# Altium integrated library NSC MiscPower.IntLib: 675 symbols (part 7 of 17)
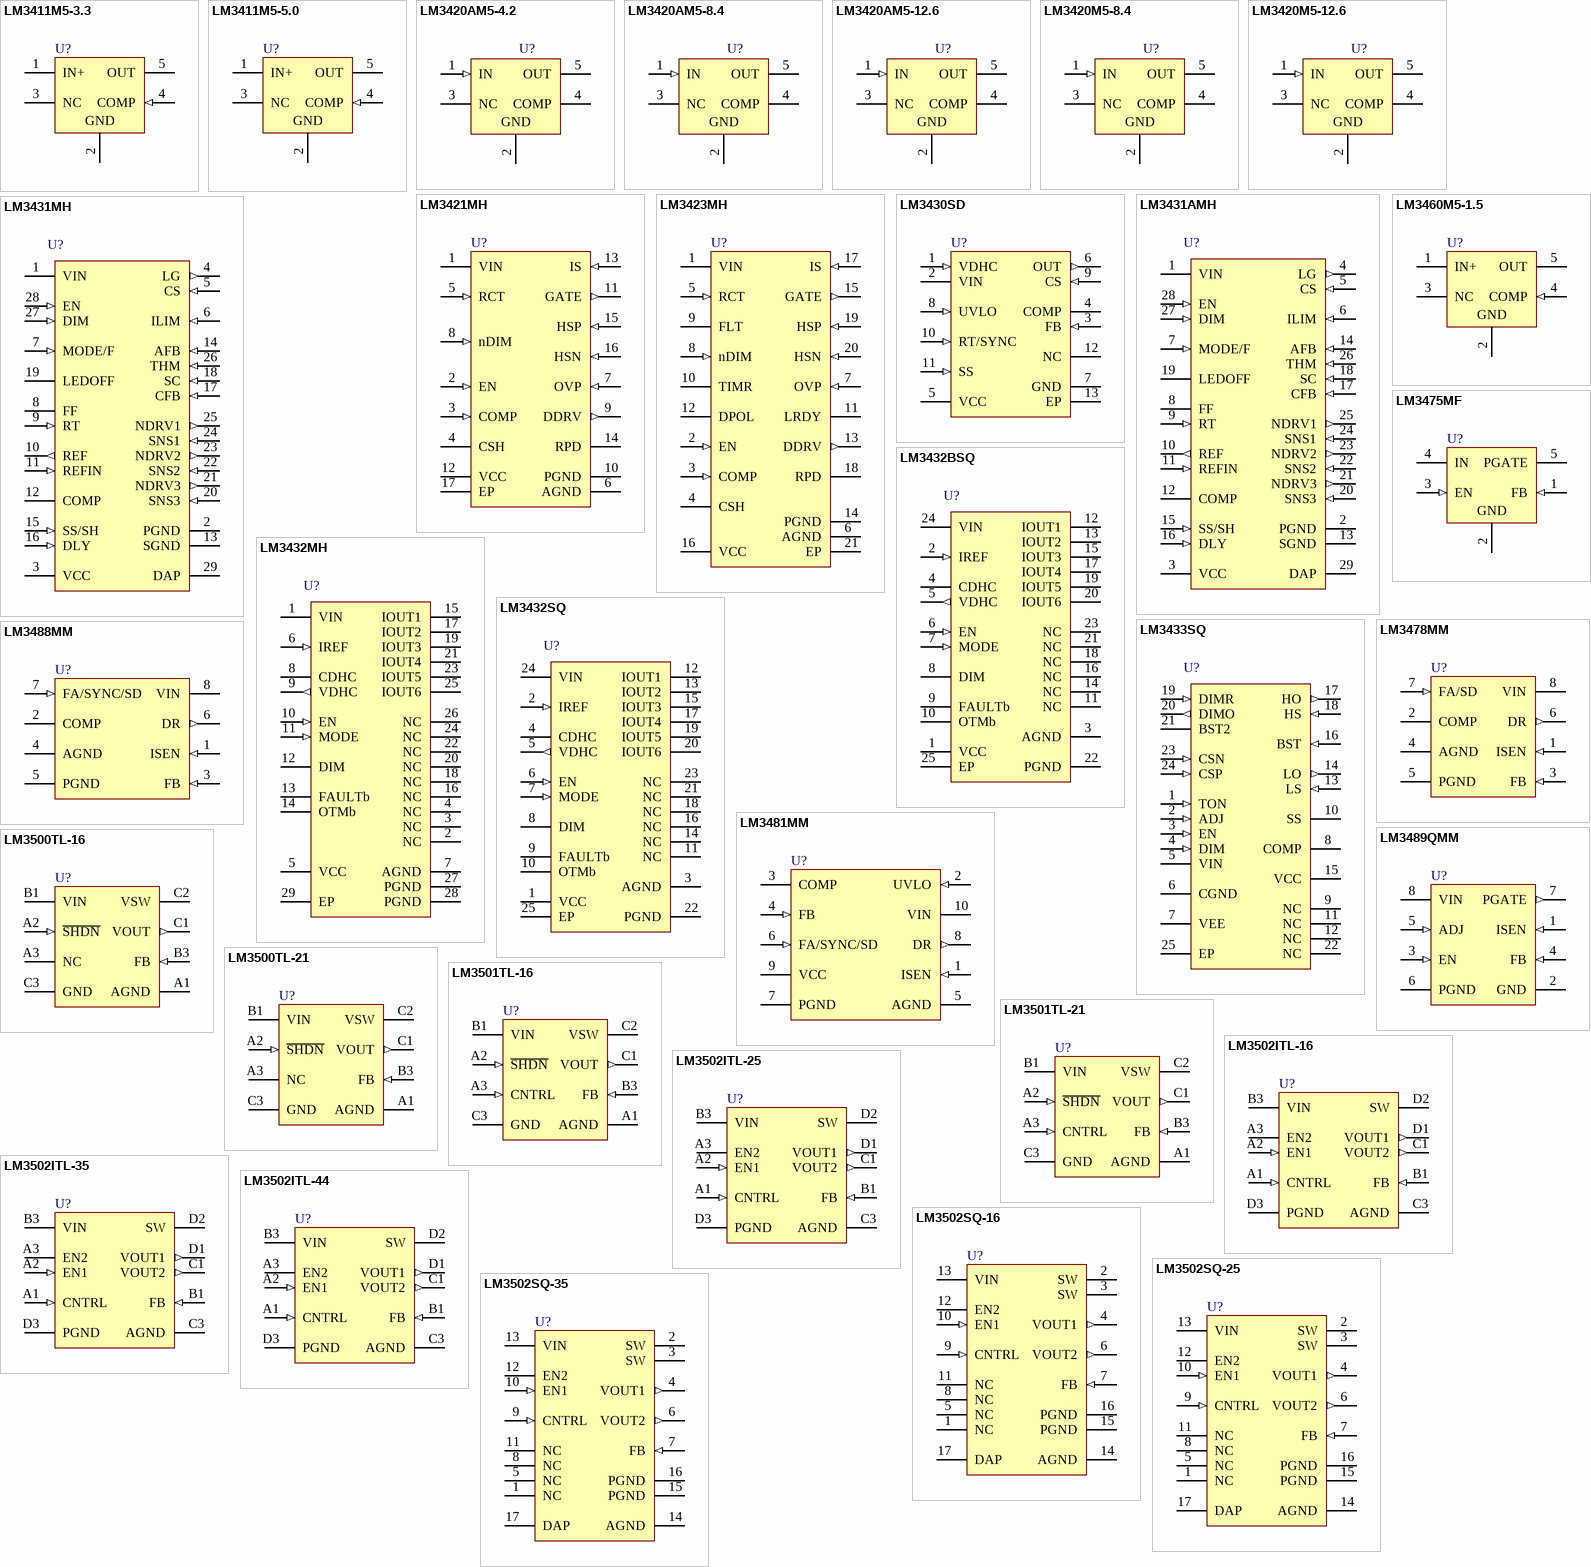
[diagram p28: symbols LM3411M5-3.3 to LM3502SQ-35]

## LM3431AMH
designator U?
3-Channel Constant Current LED Driver with Integrated Boost Controller; PartNumber: LM3431AMH; Manufacturer: National Semiconductor; CompType: MiscPower; PackageTopMarking: NSUZXYTT*LM3431AMH; Published: 4-Dec-2008; DatasheetVersion: Jan-2008; PackageVersion: revD, Oct-2003; PackageReference: MXA28A; Publisher: Altium Limited; PackageDescription: Molded TSSOP, Jedec, 9.7 x 4.4 x 0.9mm Body, 28 Lead, 0.65mm Pitch, Exposed Pad; RoHS: Y; PinCount: 28; DigiKeyPartNumber: LM3431AMH-ND; Code_JEDEC: MO-153-AET; ComponentLink1Description: LM3431 Datasheet; ComponentLink1URL: http://www.national.com/ds/LM/LM3431.pdf; ComponentLink2Description: LM3431 Web Page; ComponentLink2URL: http://www.national.com/pf/LM/LM3431.html; ComponentLink3Description: MXA28A Package Page; ComponentLink3URL: http://www.national.com/packaging/folders/mxa28a.html
footprint MXA28A_N (TSOP, 28-Leads, Body 9.7x4.4mm, Pitch 0.65mm, Exposed Pad, IPC Medium Density)
footprint MXA28A_L (TSOP, 28-Leads, Body 9.7x4.4mm, Pitch 0.65mm, Exposed Pad, IPC High Density)
footprint MXA28A_M (TSOP, 28-Leads, Body 9.7x4.4mm, Pitch 0.65mm, Exposed Pad, IPC Low Density)
pins: 1 VIN (power), 2 PGND (power), 3 VCC (power), 4 LG (out), 5 CS (in), 6 ILIM (in), 7 MODE/F (in), 8 FF, 9 RT (in), 10 REF (out), 11 REFIN (in), 12 COMP, 13 SGND (power), 14 AFB (in), 15 SS/SH (in), 16 DLY (in), 17 CFB (in), 18 SC (in), 19 LEDOFF, 20 SNS3 (in), 21 NDRV3 (out), 22 SNS2 (in), 23 NDRV2 (out), 24 SNS1 (in), 25 NDRV1 (out), 26 THM (in), 27 DIM (in), 28 EN (in), 29 DAP (power)

## LM3431MH
designator U?
3-Channel Constant Current LED Driver with Integrated Boost Controller; PartNumber: LM3431MH; Manufacturer: National Semiconductor; CompType: MiscPower; PackageTopMarking: NSUZXYTT*LM3431MH; Published: 4-Dec-2008; DatasheetVersion: Jan-2008; PackageVersion: revD, Oct-2003; PackageReference: MXA28A; Publisher: Altium Limited; PackageDescription: Molded TSSOP, Jedec, 9.7 x 4.4 x 0.9mm Body, 28 Lead, 0.65mm Pitch, Exposed Pad; RoHS: Y; PinCount: 28; DigiKeyPartNumber: LM3431MH-ND; Code_JEDEC: MO-153-AET; ComponentLink1Description: LM3431 Datasheet; ComponentLink1URL: http://www.national.com/ds/LM/LM3431.pdf; ComponentLink2Description: LM3431 Web Page; ComponentLink2URL: http://www.national.com/pf/LM/LM3431.html; ComponentLink3Description: MXA28A Package Page; ComponentLink3URL: http://www.national.com/packaging/folders/mxa28a.html
footprint MXA28A_N (TSOP, 28-Leads, Body 9.7x4.4mm, Pitch 0.65mm, Exposed Pad, IPC Medium Density)
footprint MXA28A_L (TSOP, 28-Leads, Body 9.7x4.4mm, Pitch 0.65mm, Exposed Pad, IPC High Density)
footprint MXA28A_M (TSOP, 28-Leads, Body 9.7x4.4mm, Pitch 0.65mm, Exposed Pad, IPC Low Density)
pins: 1 VIN (power), 2 PGND (power), 3 VCC (power), 4 LG (out), 5 CS (in), 6 ILIM (in), 7 MODE/F (in), 8 FF, 9 RT (in), 10 REF (out), 11 REFIN (in), 12 COMP, 13 SGND (power), 14 AFB (in), 15 SS/SH (in), 16 DLY (in), 17 CFB (in), 18 SC (in), 19 LEDOFF, 20 SNS3 (in), 21 NDRV3 (out), 22 SNS2 (in), 23 NDRV2 (out), 24 SNS1 (in), 25 NDRV1 (out), 26 THM (in), 27 DIM (in), 28 EN (in), 29 DAP (power)

## LM3432BSQ
designator U?
6-Channel Current Regulator for LED Backlight Application; PartNumber: LM3432BSQ; Manufacturer: National Semiconductor; CompType: MiscPower; PackageTopMarking: NS*UZXYTT*3432BSQ; Published: 4-Dec-2008; DatasheetVersion: May-2008; PackageVersion: revA, Oct-2003; PackageReference: SQA24B; Publisher: Altium Limited; PackageDescription: LLP, Plastic, Quad, 5 x 4 x 0.8mm Body, 24 Lead, 0.5mm Pitch, No Pullback; RoHS: Y; PinCount: 24; Code_JEDEC: MO-220-WGHD-1; ComponentLink1Description: LM3432B Datasheet; ComponentLink1URL: http://www.national.com/ds/LM/LM3432.pdf; ComponentLink2Description: LM3432B Web Page; ComponentLink2URL: http://www.national.com/pf/LM/LM3432B.html; ComponentLink3Description: SQA24B Package Page; ComponentLink3URL: http://www.national.com/packaging/folders/sqa24b.html
footprint SQA24B (QFN, 24-Leads, Body 5x4mm, Pitch 0.5mm, NSC Recommended)
pins: 1 VCC (power), 2 IREF (in), 3 AGND (power), 4 CDHC, 5 VDHC (out), 6 EN (in), 7 MODE (in), 8 DIM, 9 FAULTb (oc), 10 OTMb (oc), 11 NC, 12 IOUT1 (oc), 13 IOUT2 (oc), 14 NC, 15 IOUT3 (oc), 16 NC, 17 IOUT4 (oc), 18 NC, 19 IOUT5 (oc), 20 IOUT6 (oc), 21 NC, 22 PGND (power), 23 NC, 24 VIN (power), 25 EP (power)

## LM3432MH
designator U?
6-Channel Current Regulator for LED Backlight Application; PartNumber: LM3432MH; Manufacturer: National Semiconductor; CompType: MiscPower; PackageTopMarking: NSUZXYTT*LM3432*MH; Published: 4-Dec-2008; DatasheetVersion: May-2008; PackageVersion: revD, Oct-2003; PackageReference: MXA28A; Publisher: Altium Limited; PackageDescription: Molded TSSOP, Jedec, 9.7 x 4.4 x 0.9mm Body, 28 Lead, 0.65mm Pitch, Exposed Pad; RoHS: Y; PinCount: 28; DigiKeyPartNumber: LM3432MH-ND; Code_JEDEC: MO-153-AET; ComponentLink1Description: LM3432 Datasheet; ComponentLink1URL: http://www.national.com/ds/LM/LM3432.pdf; ComponentLink2Description: LM3432 Web Page; ComponentLink2URL: http://www.national.com/pf/LM/LM3432.html; ComponentLink3Description: MXA28A Package Page; ComponentLink3URL: http://www.national.com/packaging/folders/mxa28a.html
footprint MXA28A_N (TSOP, 28-Leads, Body 9.7x4.4mm, Pitch 0.65mm, Exposed Pad, IPC Medium Density)
footprint MXA28A_L (TSOP, 28-Leads, Body 9.7x4.4mm, Pitch 0.65mm, Exposed Pad, IPC High Density)
footprint MXA28A_M (TSOP, 28-Leads, Body 9.7x4.4mm, Pitch 0.65mm, Exposed Pad, IPC Low Density)
pins: 1 VIN (power), 2 NC, 3 NC, 4 NC, 5 VCC (power), 6 IREF (in), 7 AGND (power), 8 CDHC, 9 VDHC (out), 10 EN (in), 11 MODE (in), 12 DIM, 13 FAULTb (oc), 14 OTMb (oc), 15 IOUT1 (oc), 16 NC, 17 IOUT2 (oc), 18 NC, 19 IOUT3 (oc), 20 NC, 21 IOUT4 (oc), 22 NC, 23 IOUT5 (oc), 24 NC, 25 IOUT6 (oc), 26 NC, 27 PGND (power), 28 PGND (power), 29 EP (power)

## LM3432SQ
designator U?
6-Channel Current Regulator for LED Backlight Application; PartNumber: LM3432SQ; Manufacturer: National Semiconductor; CompType: MiscPower; PackageTopMarking: NS*UZXYTT*L3432SQ; Published: 4-Dec-2008; DatasheetVersion: May-2008; PackageVersion: revA, Oct-2003; PackageReference: SQA24B; Publisher: Altium Limited; PackageDescription: LLP, Plastic, Quad, 5 x 4 x 0.8mm Body, 24 Lead, 0.5mm Pitch, No Pullback; RoHS: Y; PinCount: 24; DigiKeyPartNumber: LM3432SQCT-ND; Code_JEDEC: MO-220-WGHD-1; ComponentLink1Description: LM3432 Datasheet; ComponentLink1URL: http://www.national.com/ds/LM/LM3432.pdf; ComponentLink2Description: LM3432 Web Page; ComponentLink2URL: http://www.national.com/pf/LM/LM3432.html; ComponentLink3Description: SQA24B Package Page; ComponentLink3URL: http://www.national.com/packaging/folders/sqa24b.html
footprint SQA24B (QFN, 24-Leads, Body 5x4mm, Pitch 0.5mm, NSC Recommended)
pins: 1 VCC (power), 2 IREF (in), 3 AGND (power), 4 CDHC, 5 VDHC (out), 6 EN (in), 7 MODE (in), 8 DIM, 9 FAULTb (oc), 10 OTMb (oc), 11 NC, 12 IOUT1 (oc), 13 IOUT2 (oc), 14 NC, 15 IOUT3 (oc), 16 NC, 17 IOUT4 (oc), 18 NC, 19 IOUT5 (oc), 20 IOUT6 (oc), 21 NC, 22 PGND (power), 23 NC, 24 VIN (power), 25 EP (power)

## LM3433SQ
designator U?
Common Anode Capable High Brightness LED Driver with High Frequency Dimming; PartNumber: LM3433SQ; Manufacturer: National Semiconductor; CompType: MiscPower; PackageTopMarking: NS*UZXYTT*L3433SQ; Published: 4-Dec-2008; DatasheetVersion: Mar-2008; PackageVersion: revB, Aug-2003; PackageReference: SQA24A; Publisher: Altium Limited; PackageDescription: LLP, Plastic, Quad, 4 x 4 x 0.8mm Body, 24 Lead, 0.5mm Pitch, No Pullback; RoHS: Y; PinCount: 24; DigiKeyPartNumber: LM3433SQCT-ND; Code_JEDEC: MO-220-WGGD-6; ComponentLink1Description: LM3433 Datasheet; ComponentLink1URL: http://www.national.com/ds/LM/LM3433.pdf; ComponentLink2Description: LM3433 Web Page; ComponentLink2URL: http://www.national.com/pf/LM/LM3433.html; ComponentLink3Description: SQA24A Package Page; ComponentLink3URL: http://www.national.com/packaging/folders/sqa24a.html
footprint SQA24A (QFN, 24-Leads, Body 4x4mm, Pitch 0.5mm, NSC Recommended)
pins: 1 TON (in), 2 ADJ (in), 3 EN (in), 4 DIM (in), 5 VIN (power), 6 CGND (power), 7 VEE (power), 8 COMP, 9 NC, 10 SS, 11 NC, 12 NC, 13 LS (in), 14 LO (out), 15 VCC (power), 16 BST (in), 17 HO (out), 18 HS (in), 19 DIMR (in), 20 DIMO (out), 21 BST2, 22 NC, 23 CSN (in), 24 CSP (in), 25 EP (power)

## LM3460M5-1.5
designator U?
Precision Controller for GTLp and GTL Bus Termination; PartNumber: LM3460M5-1.5; Manufacturer: National Semiconductor; CompType: MiscPower; PackageTopMarking: D06A*XTT; Published: 4-Dec-2008; DatasheetVersion: Mar-2005; PackageVersion: revD, Aug-2008; PackageReference: MF05A; Publisher: Altium Limited; PackageDescription: Molded SOT-23, .115 x .063 x .040 in Body, 5 Lead, .0375 in Pitch; RoHS: Y; PinCount: 5; DigiKeyPartNumber: LM3460M5-1.5CT-ND; Code_IPC: SOT23-5; ComponentLink1Description: LM3460 Datasheet; ComponentLink1URL: http://www.national.com/ds/LM/LM3460.pdf; ComponentLink2Description: LM3460 Web Page; ComponentLink2URL: http://www.national.com/pf/LM/LM3460.html; ComponentLink3Description: MF05A Package Page; ComponentLink3URL: http://www.national.com/packaging/folders/mf05a.html
footprint MF05A_N (SOT23, 5-Leads, Body 2.9x1.6mm, Pitch 0.95mm, Lead Span 2.8mm, IPC Medium Density)
footprint MF05A_L (SOT23, 5-Leads, Body 2.9x1.6mm, Pitch 0.95mm, Lead Span 2.8mm, IPC High Density)
footprint MF05A_M (SOT23, 5-Leads, Body 2.9x1.6mm, Pitch 0.95mm, Lead Span 2.8mm, IPC Low Density)
pins: 1 IN+ (power), 2 GND (power), 3 NC, 4 COMP (in), 5 OUT (power)

## LM3475MF
designator U?
Hysteretic PFET Buck Controller; PartNumber: LM3475MF; Manufacturer: National Semiconductor; CompType: MiscPower; PackageTopMarking: S65B*XTT; Published: 4-Dec-2008; DatasheetVersion: Jan-2005; PackageVersion: revD, Aug-2008; PackageReference: MF05A; Publisher: Altium Limited; PackageDescription: Molded SOT-23, .115 x .063 x .040 in Body, 5 Lead, .0375 in Pitch; RoHS: O; PinCount: 5; DigiKeyPartNumber: LM3475MFCT-ND; Code_IPC: SOT23-5; ComponentLink1Description: LM3475 Datasheet; ComponentLink1URL: http://www.national.com/ds/LM/LM3475.pdf; ComponentLink2Description: LM3475 Web Page; ComponentLink2URL: http://www.national.com/pf/LM/LM3475.html; ComponentLink3Description: MF05A Package Page; ComponentLink3URL: http://www.national.com/packaging/folders/mf05a.html
footprint MF05A_N (SOT23, 5-Leads, Body 2.9x1.6mm, Pitch 0.95mm, Lead Span 2.8mm, IPC Medium Density)
footprint MF05A_L (SOT23, 5-Leads, Body 2.9x1.6mm, Pitch 0.95mm, Lead Span 2.8mm, IPC High Density)
footprint MF05A_M (SOT23, 5-Leads, Body 2.9x1.6mm, Pitch 0.95mm, Lead Span 2.8mm, IPC Low Density)
pins: 1 FB (in), 2 GND (power), 3 EN (in), 4 IN (power), 5 PGATE (power)

## LM3478MM
designator U?
High Efficiency Low-Side N-Channel Controller for Switching Regulator; PartNumber: LM3478MM; Manufacturer: National Semiconductor; CompType: MiscPower; PackageTopMarking: ZXTT*S14B; Published: 4-Dec-2008; DatasheetVersion: May-2005; PackageVersion: revF, Apr-2008; PackageReference: MUA08A; Publisher: Altium Limited; PackageDescription: MINI SOIC, .118 x .118 x .034in, 8 Lead, .0256in Pitch; RoHS: O; PinCount: 8; DigiKeyPartNumber: LM3478MMCT-ND; Code_JEDEC: MO-187-AA; ComponentLink1Description: LM3478 Datasheet; ComponentLink1URL: http://www.national.com/ds/LM/LM3478.pdf; ComponentLink2Description: LM3478 Web Page; ComponentLink2URL: http://www.national.com/pf/LM/LM3478.html; ComponentLink3Description: MUA08A Package Page; ComponentLink3URL: http://www.national.com/packaging/folders/mua08a.html
footprint MUA08A_N (TSOP, 8-Leads, Body 3x3mm, Pitch 0.65mm, IPC Medium Density)
footprint MUA08A_L (TSOP, 8-Leads, Body 3x3mm, Pitch 0.65mm, IPC High Density)
footprint MUA08A_M (TSOP, 8-Leads, Body 3x3mm, Pitch 0.65mm, IPC Low Density)
pins: 1 ISEN (in), 2 COMP, 3 FB (in), 4 AGND (power), 5 PGND (power), 6 DR (out), 7 FA/SD (in), 8 VIN (power)

## LM3481MM
designator U?
High Efficiency Low-Side N-Channel Controller for Switching Regulators; PartNumber: LM3481MM; Manufacturer: National Semiconductor; CompType: MiscPower; PackageTopMarking: ZXTT*SJPB; Published: 4-Dec-2008; DatasheetVersion: Nov-2007; PackageVersion: revB, Jul-2003; PackageReference: MUB10A; Publisher: Altium Limited; PackageDescription: Mini-SO, Molded, .118 x .118 x .034in Body, 10 Lead, .0197in Pitch; RoHS: Y; PinCount: 10; DigiKeyPartNumber: LM3481MMCT-ND; Code_JEDEC: MO-187-BA; ComponentLink1Description: LM3481 Datasheet; ComponentLink1URL: http://www.national.com/ds/LM/LM3481.pdf; ComponentLink2Description: LM3481 Web Page; ComponentLink2URL: http://www.national.com/pf/LM/LM3481.html; ComponentLink3Description: MUB10A Package Page; ComponentLink3URL: http://www.national.com/packaging/folders/mub10a.html
footprint MUB10A_N (TSSOP, 10-Leads, Body 3x3mm, Pitch 0.5mm, IPC Medium Density)
footprint MUB10A_L (TSSOP, 10-Leads, Body 3x3mm, Pitch 0.5mm, IPC High Density)
footprint MUB10A_M (TSSOP, 10-Leads, Body 3x3mm, Pitch 0.5mm, IPC Low Density)
pins: 1 ISEN (in), 2 UVLO (in), 3 COMP, 4 FB (in), 5 AGND (power), 6 FA/SYNC/SD (in), 7 PGND (power), 8 DR (out), 9 VCC (power), 10 VIN (power)

## LM3488MM
designator U?
High Efficiency Low-Side N-Channel Controller for Switching Regulator; PartNumber: LM3488MM; Manufacturer: National Semiconductor; CompType: MiscPower; PackageTopMarking: ZXTT*S21B; Published: 4-Dec-2008; DatasheetVersion: May-2005; PackageVersion: revF, Apr-2008; PackageReference: MUA08A; Publisher: Altium Limited; PackageDescription: MINI SOIC, .118 x .118 x .034in, 8 Lead, .0256in Pitch; RoHS: O; PinCount: 8; DigiKeyPartNumber: LM3488MMCT-ND; Code_JEDEC: MO-187-AA; ComponentLink1Description: LM3488 Datasheet; ComponentLink1URL: http://www.national.com/ds/LM/LM3488.pdf; ComponentLink2Description: LM3488 Web Page; ComponentLink2URL: http://www.national.com/pf/LM/LM3488.html; ComponentLink3Description: MUA08A Package Page; ComponentLink3URL: http://www.national.com/packaging/folders/mua08a.html
footprint MUA08A_N (TSOP, 8-Leads, Body 3x3mm, Pitch 0.65mm, IPC Medium Density)
footprint MUA08A_L (TSOP, 8-Leads, Body 3x3mm, Pitch 0.65mm, IPC High Density)
footprint MUA08A_M (TSOP, 8-Leads, Body 3x3mm, Pitch 0.65mm, IPC Low Density)
pins: 1 ISEN (in), 2 COMP, 3 FB (in), 4 AGND (power), 5 PGND (power), 6 DR (out), 7 FA/SYNC/SD (in), 8 VIN (power)

## LM3489QMM
designator U?
Hysteretic PFET Buck Controller with Enable Pin; PartNumber: LM3489QMM; Manufacturer: National Semiconductor; CompType: MiscPower; PackageTopMarking: ZXTT*STEB; Published: 4-Dec-2008; DatasheetVersion: Jun-2008; PackageVersion: revF, Apr-2008; PackageReference: MUA08A; Publisher: Altium Limited; PackageDescription: MINI SOIC, .118 x .118 x .034in, 8 Lead, .0256in Pitch; RoHS: Y; PinCount: 8; Code_JEDEC: MO-187-AA; ComponentLink1Description: LM3489 Datasheet; ComponentLink1URL: http://www.national.com/ds/LM/LM3489.pdf; ComponentLink2Description: LM3489 Web Page; ComponentLink2URL: http://www.national.com/pf/LM/LM3489.html; ComponentLink3Description: MUA08A Package Page; ComponentLink3URL: http://www.national.com/packaging/folders/mua08a.html
footprint MUA08A_N (TSOP, 8-Leads, Body 3x3mm, Pitch 0.65mm, IPC Medium Density)
footprint MUA08A_L (TSOP, 8-Leads, Body 3x3mm, Pitch 0.65mm, IPC High Density)
footprint MUA08A_M (TSOP, 8-Leads, Body 3x3mm, Pitch 0.65mm, IPC Low Density)
pins: 1 ISEN (in), 2 GND (power), 3 EN (in), 4 FB (in), 5 ADJ (in), 6 PGND (power), 7 PGATE (out), 8 VIN (power)

## LM3500TL-16
designator U?
Synchronous Step-up DC/DC Converter for White LED Applications; PartNumber: LM3500TL-16; Manufacturer: National Semiconductor; CompType: MiscPower; PackageTopMarking: XVS*I 18; Published: 4-Dec-2008; DatasheetVersion: Feb-2005; PackageVersion: revC, Jan-2004; PackageReference: TLA08SSA; Publisher: Altium Limited; PackageDescription: Thin Micro SMD, 8 Bump (Large), 0.5mm Pitch; RoHS: Y; PinCount: 8; DigiKeyPartNumber: LM3500TL-16-ND; Code_JEDEC: MO-211-DD; ComponentLink1Description: LM3500 Datasheet; ComponentLink1URL: http://www.national.com/ds/LM/LM3500.pdf; ComponentLink2Description: LM3500 Web Page; ComponentLink2URL: http://www.national.com/pf/LM/LM3500.html; ComponentLink3Description: TLA08SSA Package Page; ComponentLink3URL: http://www.national.com/packaging/folders/tla08ssa.html
footprint TLA08SSA (Micro SMD, 8-Leads, Body 1.92x1.92mm, Pitch 0.5mm, NSC Recommended)
pins: A1 AGND (power), A2 ~{SHDN} (in), A3 NC, B1 VIN (power), B3 FB (in), C1 VOUT (out), C2 VSW, C3 GND (power)

## LM3500TL-21
designator U?
Synchronous Step-up DC/DC Converter for White LED Applications; PartNumber: LM3500TL-21; Manufacturer: National Semiconductor; CompType: MiscPower; PackageTopMarking: XVS*I 23; Published: 4-Dec-2008; DatasheetVersion: Feb-2005; PackageVersion: revC, Jan-2004; PackageReference: TLA08SSA; Publisher: Altium Limited; PackageDescription: Thin Micro SMD, 8 Bump (Large), 0.5mm Pitch; RoHS: Y; PinCount: 8; DigiKeyPartNumber: LM3500TL-21CT-ND; Code_JEDEC: MO-211-DD; ComponentLink1Description: LM3500 Datasheet; ComponentLink1URL: http://www.national.com/ds/LM/LM3500.pdf; ComponentLink2Description: LM3500 Web Page; ComponentLink2URL: http://www.national.com/pf/LM/LM3500.html; ComponentLink3Description: TLA08SSA Package Page; ComponentLink3URL: http://www.national.com/packaging/folders/tla08ssa.html
footprint TLA08SSA (Micro SMD, 8-Leads, Body 1.92x1.92mm, Pitch 0.5mm, NSC Recommended)
pins: A1 AGND (power), A2 ~{SHDN} (in), A3 NC, B1 VIN (power), B3 FB (in), C1 VOUT (out), C2 VSW, C3 GND (power)

## LM3501TL-16
designator U?
Synchronous Step-up DC/DC Converter for White LED Applications; PartNumber: LM3501TL-16; Manufacturer: National Semiconductor; CompType: MiscPower; PackageTopMarking: XVS*I 19; Published: 4-Dec-2008; DatasheetVersion: May-2005; PackageVersion: revC, Jan-2004; PackageReference: TLA08SSA; Publisher: Altium Limited; PackageDescription: Thin Micro SMD, 8 Bump (Large), 0.5mm Pitch; RoHS: O; PinCount: 8; DigiKeyPartNumber: LM3501TL-16EV-ND; Code_JEDEC: MO-211-DD; ComponentLink1Description: LM3501 Datasheet; ComponentLink1URL: http://www.national.com/ds/LM/LM3501.pdf; ComponentLink2Description: LM3501 Web Page; ComponentLink2URL: http://www.national.com/pf/LM/LM3501.html; ComponentLink3Description: TLA08SSA Package Page; ComponentLink3URL: http://www.national.com/packaging/folders/tla08ssa.html
footprint TLA08SSA (Micro SMD, 8-Leads, Body 1.92x1.92mm, Pitch 0.5mm, NSC Recommended)
pins: A1 AGND (power), A2 ~{SHDN} (in), A3 CNTRL (in), B1 VIN (power), B3 FB (in), C1 VOUT (out), C2 VSW, C3 GND (power)

## LM3501TL-21
designator U?
Synchronous Step-up DC/DC Converter for White LED Applications; PartNumber: LM3501TL-21; Manufacturer: National Semiconductor; CompType: MiscPower; PackageTopMarking: XVS*I 30; Published: 4-Dec-2008; DatasheetVersion: May-2005; PackageVersion: revC, Jan-2004; PackageReference: TLA08SSA; Publisher: Altium Limited; PackageDescription: Thin Micro SMD, 8 Bump (Large), 0.5mm Pitch; RoHS: Y; PinCount: 8; DigiKeyPartNumber: LM3501TL-21CT-ND; Code_JEDEC: MO-211-DD; ComponentLink1Description: LM3501 Datasheet; ComponentLink1URL: http://www.national.com/ds/LM/LM3501.pdf; ComponentLink2Description: LM3501 Web Page; ComponentLink2URL: http://www.national.com/pf/LM/LM3501.html; ComponentLink3Description: TLA08SSA Package Page; ComponentLink3URL: http://www.national.com/packaging/folders/tla08ssa.html
footprint TLA08SSA (Micro SMD, 8-Leads, Body 1.92x1.92mm, Pitch 0.5mm, NSC Recommended)
pins: A1 AGND (power), A2 ~{SHDN} (in), A3 CNTRL (in), B1 VIN (power), B3 FB (in), C1 VOUT (out), C2 VSW, C3 GND (power)

## LM3502ITL-16
designator U?
Step-Up Converter for White LED Applications; PartNumber: LM3502ITL-16; Manufacturer: National Semiconductor; CompType: MiscPower; PackageTopMarking: XYTT*I SANB; Published: 4-Dec-2008; DatasheetVersion: Aug-2006; PackageVersion: revD, Mar-2004; PackageReference: TLP10RDA; Publisher: Altium Limited; PackageDescription: Thin Micro SMD, 10 Bump (Large), Periperal, 0.5mm Pitch; RoHS: Y; PinCount: 10; DigiKeyPartNumber: LM3502ITL-16CT-ND; Code_JEDEC: MO-211-BD; ComponentLink1Description: LM3502 Datasheet; ComponentLink1URL: http://www.national.com/ds/LM/LM3502.pdf; ComponentLink2Description: LM3502 Web Page; ComponentLink2URL: http://www.national.com/pf/LM/LM3502.html; ComponentLink3Description: TLP10RDA Package Page; ComponentLink3URL: http://www.national.com/packaging/folders/tlp10rda.html
footprint TLP10RDA (Micro SMD, 10-Leads, Body 2.07x1.9mm, Pitch 0.5mm, NSC Recommended)
pins: A1 CNTRL (in), A2 EN1 (in), A3 EN2, B1 FB (in), B3 VIN (power), C1 VOUT2 (out), C3 AGND (power), D1 VOUT1 (out), D2 SW (power), D3 PGND (power)

## LM3502ITL-25
designator U?
Step-Up Converter for White LED Applications; PartNumber: LM3502ITL-25; Manufacturer: National Semiconductor; CompType: MiscPower; PackageTopMarking: XYTT*I SAPB; Published: 4-Dec-2008; DatasheetVersion: Aug-2006; PackageVersion: revD, Mar-2004; PackageReference: TLP10RDA; Publisher: Altium Limited; PackageDescription: Thin Micro SMD, 10 Bump (Large), Periperal, 0.5mm Pitch; RoHS: Y; PinCount: 10; DigiKeyPartNumber: LM3502ITL-25CT-ND; Code_JEDEC: MO-211-BD; ComponentLink1Description: LM3502 Datasheet; ComponentLink1URL: http://www.national.com/ds/LM/LM3502.pdf; ComponentLink2Description: LM3502 Web Page; ComponentLink2URL: http://www.national.com/pf/LM/LM3502.html; ComponentLink3Description: TLP10RDA Package Page; ComponentLink3URL: http://www.national.com/packaging/folders/tlp10rda.html
footprint TLP10RDA (Micro SMD, 10-Leads, Body 2.07x1.9mm, Pitch 0.5mm, NSC Recommended)
pins: A1 CNTRL (in), A2 EN1 (in), A3 EN2, B1 FB (in), B3 VIN (power), C1 VOUT2 (out), C3 AGND (power), D1 VOUT1 (out), D2 SW (power), D3 PGND (power)

## LM3502ITL-35
designator U?
Step-Up Converter for White LED Applications; PartNumber: LM3502ITL-35; Manufacturer: National Semiconductor; CompType: MiscPower; PackageTopMarking: XYTT*I SARB; Published: 4-Dec-2008; DatasheetVersion: Aug-2006; PackageVersion: revD, Mar-2004; PackageReference: TLP10RDA; Publisher: Altium Limited; PackageDescription: Thin Micro SMD, 10 Bump (Large), Periperal, 0.5mm Pitch; RoHS: Y; PinCount: 10; DigiKeyPartNumber: LM3502ITL-35-ND; Code_JEDEC: MO-211-BD; ComponentLink1Description: LM3502 Datasheet; ComponentLink1URL: http://www.national.com/ds/LM/LM3502.pdf; ComponentLink2Description: LM3502 Web Page; ComponentLink2URL: http://www.national.com/pf/LM/LM3502.html; ComponentLink3Description: TLP10RDA Package Page; ComponentLink3URL: http://www.national.com/packaging/folders/tlp10rda.html
footprint TLP10RDA (Micro SMD, 10-Leads, Body 2.07x1.9mm, Pitch 0.5mm, NSC Recommended)
pins: A1 CNTRL (in), A2 EN1 (in), A3 EN2, B1 FB (in), B3 VIN (power), C1 VOUT2 (out), C3 AGND (power), D1 VOUT1 (out), D2 SW (power), D3 PGND (power)

## LM3502ITL-44
designator U?
Step-Up Converter for White LED Applications; PartNumber: LM3502ITL-44; Manufacturer: National Semiconductor; CompType: MiscPower; PackageTopMarking: XYTT*I SDLB; Published: 4-Dec-2008; DatasheetVersion: Aug-2006; PackageVersion: revD, Mar-2004; PackageReference: TLP10RDA; Publisher: Altium Limited; PackageDescription: Thin Micro SMD, 10 Bump (Large), Periperal, 0.5mm Pitch; RoHS: Y; PinCount: 10; DigiKeyPartNumber: LM3502ITL-44EV-ND; Code_JEDEC: MO-211-BD; ComponentLink1Description: LM3502 Datasheet; ComponentLink1URL: http://www.national.com/ds/LM/LM3502.pdf; ComponentLink2Description: LM3502 Web Page; ComponentLink2URL: http://www.national.com/pf/LM/LM3502.html; ComponentLink3Description: TLP10RDA Package Page; ComponentLink3URL: http://www.national.com/packaging/folders/tlp10rda.html
footprint TLP10RDA (Micro SMD, 10-Leads, Body 2.07x1.9mm, Pitch 0.5mm, NSC Recommended)
pins: A1 CNTRL (in), A2 EN1 (in), A3 EN2, B1 FB (in), B3 VIN (power), C1 VOUT2 (out), C3 AGND (power), D1 VOUT1 (out), D2 SW (power), D3 PGND (power)

## LM3502SQ-16
designator U?
Step-Up Converter for White LED Applications; PartNumber: LM3502SQ-16; Manufacturer: National Semiconductor; CompType: MiscPower; PackageTopMarking: NS*UZXYTT*L00048B; Published: 4-Dec-2008; DatasheetVersion: Aug-2006; PackageVersion: revA, Oct-2003; PackageReference: SQA16A; Publisher: Altium Limited; PackageDescription: LLP, Plastic, Quad, 4 x 4 x 0.8mm Body, 16 Lead, 0.5mm Pitch, No Pullback; RoHS: Y; PinCount: 16; DigiKeyPartNumber: LM3502SQ-16CT-ND; ComponentLink1Description: LM3502 Datasheet; ComponentLink1URL: http://www.national.com/ds/LM/LM3502.pdf; ComponentLink2Description: LM3502 Web Page; ComponentLink2URL: http://www.national.com/pf/LM/LM3502.html; ComponentLink3Description: SQA16A Package Page; ComponentLink3URL: http://www.national.com/packaging/folders/sqa16a.html
footprint SQA16A (QFN, 16-Leads, Body 4x4mm, Pitch 0.5mm, NSC Recommended)
pins: 1 NC, 2 SW (power), 3 SW (power), 4 VOUT1 (out), 5 NC, 6 VOUT2 (out), 7 FB (in), 8 NC, 9 CNTRL (in), 10 EN1 (in), 11 NC, 12 EN2, 13 VIN (power), 14 AGND (power), 15 PGND (power), 16 PGND (power), 17 DAP (power)

## LM3502SQ-25
designator U?
Step-Up Converter for White LED Applications; PartNumber: LM3502SQ-25; Manufacturer: National Semiconductor; CompType: MiscPower; PackageTopMarking: NS*UZXYTT*L00049B; Published: 4-Dec-2008; DatasheetVersion: Aug-2006; PackageVersion: revA, Oct-2003; PackageReference: SQA16A; Publisher: Altium Limited; PackageDescription: LLP, Plastic, Quad, 4 x 4 x 0.8mm Body, 16 Lead, 0.5mm Pitch, No Pullback; RoHS: Y; PinCount: 16; DigiKeyPartNumber: LM3502SQ-25CT-ND; ComponentLink1Description: LM3502 Datasheet; ComponentLink1URL: http://www.national.com/ds/LM/LM3502.pdf; ComponentLink2Description: LM3502 Web Page; ComponentLink2URL: http://www.national.com/pf/LM/LM3502.html; ComponentLink3Description: SQA16A Package Page; ComponentLink3URL: http://www.national.com/packaging/folders/sqa16a.html
footprint SQA16A (QFN, 16-Leads, Body 4x4mm, Pitch 0.5mm, NSC Recommended)
pins: 1 NC, 2 SW (power), 3 SW (power), 4 VOUT1 (out), 5 NC, 6 VOUT2 (out), 7 FB (in), 8 NC, 9 CNTRL (in), 10 EN1 (in), 11 NC, 12 EN2, 13 VIN (power), 14 AGND (power), 15 PGND (power), 16 PGND (power), 17 DAP (power)

## LM3502SQ-35
designator U?
Step-Up Converter for White LED Applications; PartNumber: LM3502SQ-35; Manufacturer: National Semiconductor; CompType: MiscPower; PackageTopMarking: NS*UZXYTT*L00044B; Published: 4-Dec-2008; DatasheetVersion: Aug-2006; PackageVersion: revA, Oct-2003; PackageReference: SQA16A; Publisher: Altium Limited; PackageDescription: LLP, Plastic, Quad, 4 x 4 x 0.8mm Body, 16 Lead, 0.5mm Pitch, No Pullback; RoHS: Y; PinCount: 16; DigiKeyPartNumber: LM3502SQ-35CT-ND; ComponentLink1Description: LM3502 Datasheet; ComponentLink1URL: http://www.national.com/ds/LM/LM3502.pdf; ComponentLink2Description: LM3502 Web Page; ComponentLink2URL: http://www.national.com/pf/LM/LM3502.html; ComponentLink3Description: SQA16A Package Page; ComponentLink3URL: http://www.national.com/packaging/folders/sqa16a.html
footprint SQA16A (QFN, 16-Leads, Body 4x4mm, Pitch 0.5mm, NSC Recommended)
pins: 1 NC, 2 SW (power), 3 SW (power), 4 VOUT1 (out), 5 NC, 6 VOUT2 (out), 7 FB (in), 8 NC, 9 CNTRL (in), 10 EN1 (in), 11 NC, 12 EN2, 13 VIN (power), 14 AGND (power), 15 PGND (power), 16 PGND (power), 17 DAP (power)

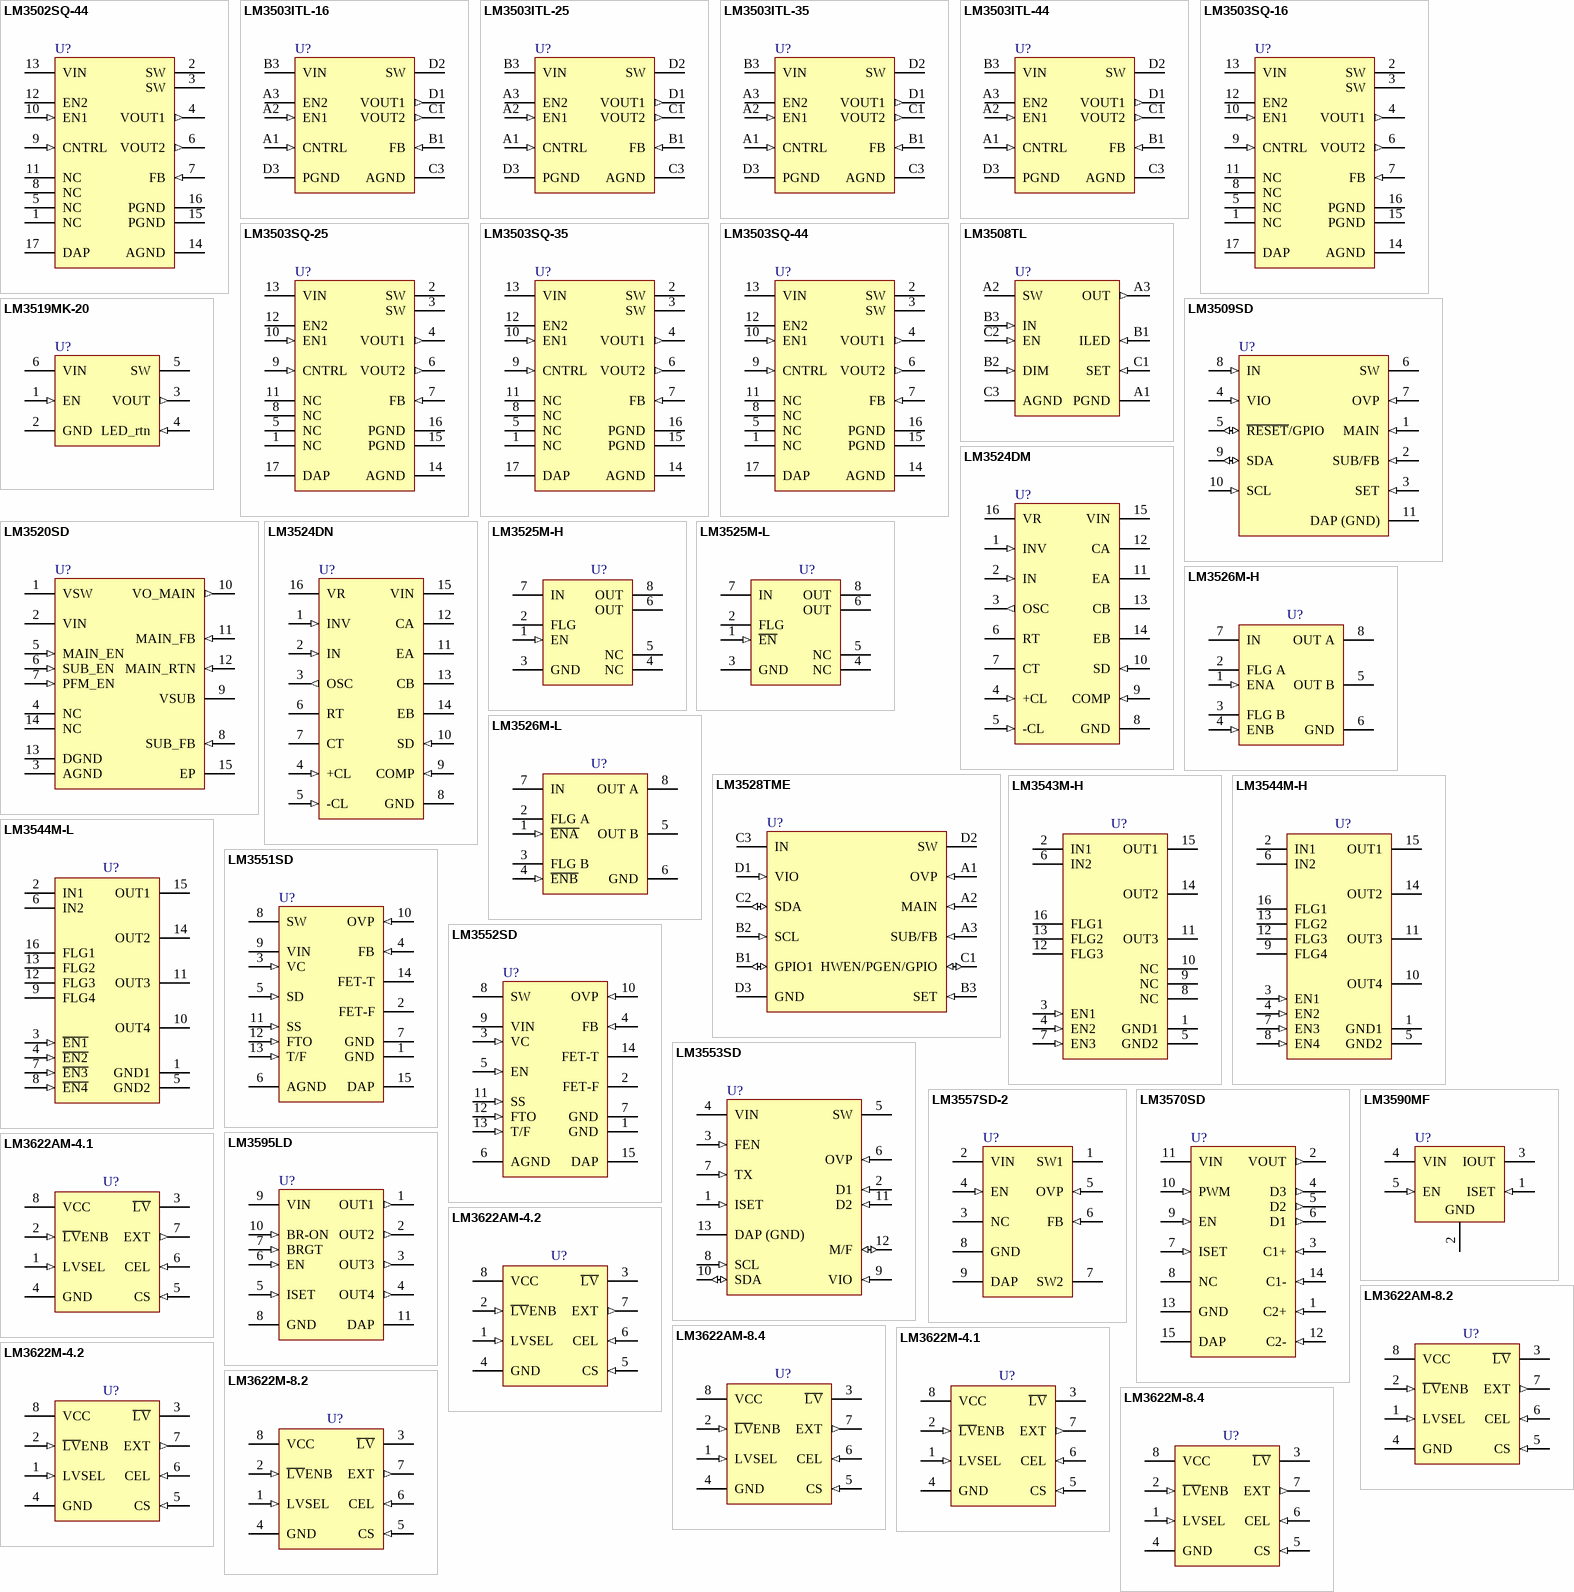
[diagram p8: symbols LM3502SQ-44 to LM3622M-8.4]

## LM3502SQ-44
designator U?
Step-Up Converter for White LED Applications; PartNumber: LM3502SQ-44; Manufacturer: National Semiconductor; CompType: MiscPower; PackageTopMarking: NS*UZXYTT*L00050B; Published: 4-Dec-2008; DatasheetVersion: Aug-2006; PackageVersion: revA, Oct-2003; PackageReference: SQA16A; Publisher: Altium Limited; PackageDescription: LLP, Plastic, Quad, 4 x 4 x 0.8mm Body, 16 Lead, 0.5mm Pitch, No Pullback; RoHS: Y; PinCount: 16; DigiKeyPartNumber: LM3502SQ-44CT-ND; ComponentLink1Description: LM3502 Datasheet; ComponentLink1URL: http://www.national.com/ds/LM/LM3502.pdf; ComponentLink2Description: LM3502 Web Page; ComponentLink2URL: http://www.national.com/pf/LM/LM3502.html; ComponentLink3Description: SQA16A Package Page; ComponentLink3URL: http://www.national.com/packaging/folders/sqa16a.html
footprint SQA16A (QFN, 16-Leads, Body 4x4mm, Pitch 0.5mm, NSC Recommended)
pins: 1 NC, 2 SW (power), 3 SW (power), 4 VOUT1 (out), 5 NC, 6 VOUT2 (out), 7 FB (in), 8 NC, 9 CNTRL (in), 10 EN1 (in), 11 NC, 12 EN2, 13 VIN (power), 14 AGND (power), 15 PGND (power), 16 PGND (power), 17 DAP (power)

## LM3503ITL-16
designator U?
Dual-Display Constant Current LED Driver with Analog Brightness Control; PartNumber: LM3503ITL-16; Manufacturer: National Semiconductor; CompType: MiscPower; PackageTopMarking: XYTT*I SBHB; Published: 4-Dec-2008; DatasheetVersion: Aug-2006; PackageVersion: revD, Mar-2004; PackageReference: TLP10RDA; Publisher: Altium Limited; PackageDescription: Thin Micro SMD, 10 Bump (Large), Periperal, 0.5mm Pitch; RoHS: Y; PinCount: 10; DigiKeyPartNumber: LM3503ITL-16CT-ND; Code_JEDEC: MO-211-BD; ComponentLink1Description: LM3503 Datasheet; ComponentLink1URL: http://www.national.com/ds/LM/LM3503.pdf; ComponentLink2Description: LM3503 Web Page; ComponentLink2URL: http://www.national.com/pf/LM/LM3503.html; ComponentLink3Description: TLP10RDA Package Page; ComponentLink3URL: http://www.national.com/packaging/folders/tlp10rda.html
footprint TLP10RDA (Micro SMD, 10-Leads, Body 2.07x1.9mm, Pitch 0.5mm, NSC Recommended)
pins: A1 CNTRL (in), A2 EN1 (in), A3 EN2, B1 FB (in), B3 VIN (power), C1 VOUT2 (out), C3 AGND (power), D1 VOUT1 (out), D2 SW (power), D3 PGND (power)

## LM3503ITL-25
designator U?
Dual-Display Constant Current LED Driver with Analog Brightness Control; PartNumber: LM3503ITL-25; Manufacturer: National Semiconductor; CompType: MiscPower; PackageTopMarking: XYTT*I SBJB; Published: 4-Dec-2008; DatasheetVersion: Aug-2006; PackageVersion: revD, Mar-2004; PackageReference: TLP10RDA; Publisher: Altium Limited; PackageDescription: Thin Micro SMD, 10 Bump (Large), Periperal, 0.5mm Pitch; RoHS: Y; PinCount: 10; DigiKeyPartNumber: LM3503ITL-25EV-ND; Code_JEDEC: MO-211-BD; ComponentLink1Description: LM3503 Datasheet; ComponentLink1URL: http://www.national.com/ds/LM/LM3503.pdf; ComponentLink2Description: LM3503 Web Page; ComponentLink2URL: http://www.national.com/pf/LM/LM3503.html; ComponentLink3Description: TLP10RDA Package Page; ComponentLink3URL: http://www.national.com/packaging/folders/tlp10rda.html
footprint TLP10RDA (Micro SMD, 10-Leads, Body 2.07x1.9mm, Pitch 0.5mm, NSC Recommended)
pins: A1 CNTRL (in), A2 EN1 (in), A3 EN2, B1 FB (in), B3 VIN (power), C1 VOUT2 (out), C3 AGND (power), D1 VOUT1 (out), D2 SW (power), D3 PGND (power)

## LM3503ITL-35
designator U?
Dual-Display Constant Current LED Driver with Analog Brightness Control; PartNumber: LM3503ITL-35; Manufacturer: National Semiconductor; CompType: MiscPower; PackageTopMarking: XYTT*I SBKB; Published: 4-Dec-2008; DatasheetVersion: Aug-2006; PackageVersion: revD, Mar-2004; PackageReference: TLP10RDA; Publisher: Altium Limited; PackageDescription: Thin Micro SMD, 10 Bump (Large), Periperal, 0.5mm Pitch; RoHS: Y; PinCount: 10; DigiKeyPartNumber: LM3503ITL-35CT-ND; Code_JEDEC: MO-211-BD; ComponentLink1Description: LM3503 Datasheet; ComponentLink1URL: http://www.national.com/ds/LM/LM3503.pdf; ComponentLink2Description: LM3503 Web Page; ComponentLink2URL: http://www.national.com/pf/LM/LM3503.html; ComponentLink3Description: TLP10RDA Package Page; ComponentLink3URL: http://www.national.com/packaging/folders/tlp10rda.html
footprint TLP10RDA (Micro SMD, 10-Leads, Body 2.07x1.9mm, Pitch 0.5mm, NSC Recommended)
pins: A1 CNTRL (in), A2 EN1 (in), A3 EN2, B1 FB (in), B3 VIN (power), C1 VOUT2 (out), C3 AGND (power), D1 VOUT1 (out), D2 SW (power), D3 PGND (power)

## LM3503ITL-44
designator U?
Dual-Display Constant Current LED Driver with Analog Brightness Control; PartNumber: LM3503ITL-44; Manufacturer: National Semiconductor; CompType: MiscPower; PackageTopMarking: XYTT*I SDNB; Published: 4-Dec-2008; DatasheetVersion: Aug-2006; PackageVersion: revD, Mar-2004; PackageReference: TLP10RDA; Publisher: Altium Limited; PackageDescription: Thin Micro SMD, 10 Bump (Large), Periperal, 0.5mm Pitch; RoHS: Y; PinCount: 10; DigiKeyPartNumber: LM3503ITL-44CT-ND; Code_JEDEC: MO-211-BD; ComponentLink1Description: LM3503 Datasheet; ComponentLink1URL: http://www.national.com/ds/LM/LM3503.pdf; ComponentLink2Description: LM3503 Web Page; ComponentLink2URL: http://www.national.com/pf/LM/LM3503.html; ComponentLink3Description: TLP10RDA Package Page; ComponentLink3URL: http://www.national.com/packaging/folders/tlp10rda.html
footprint TLP10RDA (Micro SMD, 10-Leads, Body 2.07x1.9mm, Pitch 0.5mm, NSC Recommended)
pins: A1 CNTRL (in), A2 EN1 (in), A3 EN2, B1 FB (in), B3 VIN (power), C1 VOUT2 (out), C3 AGND (power), D1 VOUT1 (out), D2 SW (power), D3 PGND (power)

## LM3503SQ-16
designator U?
Dual-Display Constant Current LED Driver with Analog Brightness Control; PartNumber: LM3503SQ-16; Manufacturer: National Semiconductor; CompType: MiscPower; PackageTopMarking: NS*UZXYTT*L00045B; Published: 4-Dec-2008; DatasheetVersion: Aug-2006; PackageVersion: revA, Oct-2003; PackageReference: SQA16A; Publisher: Altium Limited; PackageDescription: LLP, Plastic, Quad, 4 x 4 x 0.8mm Body, 16 Lead, 0.5mm Pitch, No Pullback; RoHS: Y; PinCount: 16; DigiKeyPartNumber: LM3503SQ-16CT-ND; ComponentLink1Description: LM3503 Datasheet; ComponentLink1URL: http://www.national.com/ds/LM/LM3503.pdf; ComponentLink2Description: LM3503 Web Page; ComponentLink2URL: http://www.national.com/pf/LM/LM3503.html; ComponentLink3Description: SQA16A Package Page; ComponentLink3URL: http://www.national.com/packaging/folders/sqa16a.html
footprint SQA16A (QFN, 16-Leads, Body 4x4mm, Pitch 0.5mm, NSC Recommended)
pins: 1 NC, 2 SW (power), 3 SW (power), 4 VOUT1 (out), 5 NC, 6 VOUT2 (out), 7 FB (in), 8 NC, 9 CNTRL (in), 10 EN1 (in), 11 NC, 12 EN2, 13 VIN (power), 14 AGND (power), 15 PGND (power), 16 PGND (power), 17 DAP (power)

## LM3503SQ-25
designator U?
Dual-Display Constant Current LED Driver with Analog Brightness Control; PartNumber: LM3503SQ-25; Manufacturer: National Semiconductor; CompType: MiscPower; PackageTopMarking: NS*UZXYTT*L00046B; Published: 4-Dec-2008; DatasheetVersion: Aug-2006; PackageVersion: revA, Oct-2003; PackageReference: SQA16A; Publisher: Altium Limited; PackageDescription: LLP, Plastic, Quad, 4 x 4 x 0.8mm Body, 16 Lead, 0.5mm Pitch, No Pullback; RoHS: Y; PinCount: 16; DigiKeyPartNumber: LM3503SQ-25CT-ND; ComponentLink1Description: LM3503 Datasheet; ComponentLink1URL: http://www.national.com/ds/LM/LM3503.pdf; ComponentLink2Description: LM3503 Web Page; ComponentLink2URL: http://www.national.com/pf/LM/LM3503.html; ComponentLink3Description: SQA16A Package Page; ComponentLink3URL: http://www.national.com/packaging/folders/sqa16a.html
footprint SQA16A (QFN, 16-Leads, Body 4x4mm, Pitch 0.5mm, NSC Recommended)
pins: 1 NC, 2 SW (power), 3 SW (power), 4 VOUT1 (out), 5 NC, 6 VOUT2 (out), 7 FB (in), 8 NC, 9 CNTRL (in), 10 EN1 (in), 11 NC, 12 EN2, 13 VIN (power), 14 AGND (power), 15 PGND (power), 16 PGND (power), 17 DAP (power)

## LM3503SQ-35
designator U?
Dual-Display Constant Current LED Driver with Analog Brightness Control; PartNumber: LM3503SQ-35; Manufacturer: National Semiconductor; CompType: MiscPower; PackageTopMarking: NS*UZXYTT*L00047B; Published: 4-Dec-2008; DatasheetVersion: Aug-2006; PackageVersion: revA, Oct-2003; PackageReference: SQA16A; Publisher: Altium Limited; PackageDescription: LLP, Plastic, Quad, 4 x 4 x 0.8mm Body, 16 Lead, 0.5mm Pitch, No Pullback; RoHS: Y; PinCount: 16; DigiKeyPartNumber: LM3503SQ-35CT-ND; ComponentLink1Description: LM3503 Datasheet; ComponentLink1URL: http://www.national.com/ds/LM/LM3503.pdf; ComponentLink2Description: LM3503 Web Page; ComponentLink2URL: http://www.national.com/pf/LM/LM3503.html; ComponentLink3Description: SQA16A Package Page; ComponentLink3URL: http://www.national.com/packaging/folders/sqa16a.html
footprint SQA16A (QFN, 16-Leads, Body 4x4mm, Pitch 0.5mm, NSC Recommended)
pins: 1 NC, 2 SW (power), 3 SW (power), 4 VOUT1 (out), 5 NC, 6 VOUT2 (out), 7 FB (in), 8 NC, 9 CNTRL (in), 10 EN1 (in), 11 NC, 12 EN2, 13 VIN (power), 14 AGND (power), 15 PGND (power), 16 PGND (power), 17 DAP (power)

## LM3503SQ-44
designator U?
Dual-Display Constant Current LED Driver with Analog Brightness Control; PartNumber: LM3503SQ-44; Manufacturer: National Semiconductor; CompType: MiscPower; PackageTopMarking: NS*UZXYTT*L00053B; Published: 4-Dec-2008; DatasheetVersion: Aug-2006; PackageVersion: revA, Oct-2003; PackageReference: SQA16A; Publisher: Altium Limited; PackageDescription: LLP, Plastic, Quad, 4 x 4 x 0.8mm Body, 16 Lead, 0.5mm Pitch, No Pullback; RoHS: Y; PinCount: 16; DigiKeyPartNumber: LM3503SQ-44CT-ND; ComponentLink1Description: LM3503 Datasheet; ComponentLink1URL: http://www.national.com/ds/LM/LM3503.pdf; ComponentLink2Description: LM3503 Web Page; ComponentLink2URL: http://www.national.com/pf/LM/LM3503.html; ComponentLink3Description: SQA16A Package Page; ComponentLink3URL: http://www.national.com/packaging/folders/sqa16a.html
footprint SQA16A (QFN, 16-Leads, Body 4x4mm, Pitch 0.5mm, NSC Recommended)
pins: 1 NC, 2 SW (power), 3 SW (power), 4 VOUT1 (out), 5 NC, 6 VOUT2 (out), 7 FB (in), 8 NC, 9 CNTRL (in), 10 EN1 (in), 11 NC, 12 EN2, 13 VIN (power), 14 AGND (power), 15 PGND (power), 16 PGND (power), 17 DAP (power)

## LM3508TL
designator U?
Synchronous Magnetic Constant Current White LED Driver; PartNumber: LM3508TL; Manufacturer: National Semiconductor; CompType: MiscPower; PackageTopMarking: XVD*I 31; Published: 4-Dec-2008; DatasheetVersion: Mar-2008; PackageVersion: revC, Jan-2004; PackageReference: TLA09AAA; Publisher: Altium Limited; PackageDescription: Thin Micro SMD, 9 Bump (Large), 0.5mm Pitch; RoHS: Y; PinCount: 9; DigiKeyPartNumber: LM3508TLEV-ND; Code_JEDEC: MO-211-DD; ComponentLink1Description: LM3508 Datasheet; ComponentLink1URL: http://www.national.com/ds/LM/LM3508.pdf; ComponentLink2Description: LM3508 Web Page; ComponentLink2URL: http://www.national.com/pf/LM/LM3508.html; ComponentLink3Description: TLA09AAA Package Page; ComponentLink3URL: http://www.national.com/packaging/folders/tla09aaa.html
footprint TLA09AAA (Micro SMD, 9-Leads, Body 1.52x1.52mm, Pitch 0.5mm, NSC Recommended)
pins: A1 PGND (power), A2 SW (power), A3 OUT (out), B1 ILED (in), B2 DIM (in), B3 IN (in), C1 SET (in), C2 EN (in), C3 AGND (power)

## LM3509SD
designator U?
High Efficiency Boost for White LED's and/or OLED Displays with Dual Current Sinks and  IC Compatible Brightness Control; PartNumber: LM3509SD; Manufacturer: National Semiconductor; CompType: MiscPower; PackageTopMarking: ZXYTT*L3509; Published: 4-Dec-2008; DatasheetVersion: Mar-2008; PackageVersion: revA, Oct-2003; PackageReference: SDA10A; Publisher: Altium Limited; PackageDescription: LLP, Plastic, Dual, 3 x 3 x 0.8mm Body, 10 Lead, 0.5mm Pitch, No Pullback; RoHS: Y; PinCount: 10; DigiKeyPartNumber: LM3509SDEV-ND; ComponentLink1Description: LM3509 Datasheet; ComponentLink1URL: http://www.national.com/ds/LM/LM3509.pdf; ComponentLink2Description: LM3509 Web Page; ComponentLink2URL: http://www.national.com/pf/LM/LM3509.html; ComponentLink3Description: SDA10A Package Page; ComponentLink3URL: http://www.national.com/packaging/folders/sda10a.html
footprint SDA10A (SON, 10-Leads, Body 3x3 mm, Pitch 0.5mm, NSC Recommended)
pins: 1 MAIN (in), 2 SUB/FB (in), 3 SET (in), 4 VIO (in), 5 ~{RESET}/GPIO (io), 6 SW (power), 7 OVP (in), 8 IN (in), 9 SDA (io), 10 SCL (in), 11 DAP (GND) (power)

## LM3519MK-20
designator U?
High Frequency Boost White LED Driver with High-Speed PWM Brightness Control; PartNumber: LM3519MK-20; Manufacturer: National Semiconductor; CompType: MiscPower; PackageTopMarking: D52B*XTT; Published: 4-Dec-2008; DatasheetVersion: Sep-2005; PackageVersion: revD, Jul-2005; PackageReference: MK06A; Publisher: Altium Limited; PackageDescription: Molded TSOT, 2.97 x 1.65 x 0.87mm Body, 6 Lead, 0.95mm Pitch; RoHS: Y; PinCount: 6; DigiKeyPartNumber: LM3519MK-20CT-ND; Code_JEDEC: MO-193-AA; Code_IPC: SOT26A-6; ComponentLink1Description: LM3519 Datasheet; ComponentLink1URL: http://www.national.com/ds/LM/LM3519.pdf; ComponentLink2Description: LM3519 Web Page; ComponentLink2URL: http://www.national.com/pf/LM/LM3519.html; ComponentLink3Description: MK06A Package Page; ComponentLink3URL: http://www.national.com/packaging/folders/mk06a.html
footprint MK06A_N (SOT23, 6-Leads, Body 3.0x1.7mm, Pitch 0.95mm, Lead Span 2.9mm, IPC Medium Density)
footprint MK06A_L (SOT23, 6-Leads, Body 3.0x1.7mm, Pitch 0.95mm, Lead Span 2.9mm, IPC High Density)
footprint MK06A_M (SOT23, 6-Leads, Body 3.0x1.7mm, Pitch 0.95mm, Lead Span 2.9mm, IPC Low Density)
pins: 1 EN (in), 2 GND (power), 3 VOUT (out), 4 LED_rtn (in), 5 SW (power), 6 VIN (power)

## LM3520SD
designator U?
Integrated White LED Driver with Organic LED Display Power Supply; PartNumber: LM3520SD; Manufacturer: National Semiconductor; CompType: MiscPower; PackageTopMarking: ZXYTT*L133B; Published: 4-Dec-2008; DatasheetVersion: Sep-2005; PackageVersion: revA, Jun-2003; PackageReference: SDA14A; Publisher: Altium Limited; PackageDescription: LLP, Plastic, Dual, 4 x 3 x 0.8mm Body, 14 Lead, 0.5mm Pitch, No Pullback; RoHS: Y; PinCount: 14; DigiKeyPartNumber: LM3520SDCT-ND; ComponentLink1Description: LM3520 Datasheet; ComponentLink1URL: http://www.national.com/ds/LM/LM3520.pdf; ComponentLink2Description: LM3520 Web Page; ComponentLink2URL: http://www.national.com/pf/LM/LM3520.html; ComponentLink3Description: SDA14A Package Page; ComponentLink3URL: http://www.national.com/packaging/folders/sda14a.html
footprint SDA14A (SON, 14-Leads, Body 4x3mm, Pitch 0.5mm, NSC Recommended)
pins: 1 VSW (power), 2 VIN (power), 3 AGND (power), 4 NC, 5 MAIN_EN (in), 6 SUB_EN (in), 7 PFM_EN (in), 8 SUB_FB (in), 9 VSUB (power), 10 VO_MAIN (out), 11 MAIN_FB (in), 12 MAIN_RTN (in), 13 DGND (power), 14 NC, 15 EP (power)

## LM3524DM
designator U?
Regulating Pulse Width Modulator; PartNumber: LM3524DM; Manufacturer: National Semiconductor; CompType: MiscPower; PackageTopMarking: NSUZXYTT*LM3524DM; Published: 4-Dec-2008; DatasheetVersion: May-2008; PackageVersion: revJ, Aug-1995; PackageReference: M16A; Publisher: Altium Limited; PackageDescription: Molded Package, SO, .150in Wide, 16 Lead; RoHS: O; PinCount: 16; DigiKeyPartNumber: LM3524DM-ND; Code_JEDEC: MS-012-AC; Code_IPC: SOIC127P600-16; ComponentLink1Description: LM3524D Datasheet; ComponentLink1URL: http://www.national.com/ds/LM/LM3524D.pdf; ComponentLink2Description: LM3524D Web Page; ComponentLink2URL: http://www.national.com/pf/LM/LM3524D.html; ComponentLink3Description: M16A Package Page; ComponentLink3URL: http://www.national.com/packaging/folders/m16a.html
footprint M16A_N (SOIC, 16-Leads, Body 9.9x3.9mm, Pitch 1.27mm, IPC Medium Density)
footprint M16A_L (SOIC, 16-Leads, Body 9.9x3.9mm, Pitch 1.27mm, IPC High Density)
footprint M16A_M (SOIC, 16-Leads, Body 9.9x3.9mm, Pitch 1.27mm, IPC Low Density)
pins: 1 INV (in), 2 IN (in), 3 OSC (out), 4 +CL (in), 5 -CL (in), 6 RT, 7 CT, 8 GND (power), 9 COMP (in), 10 SD (in), 11 EA, 12 CA, 13 CB, 14 EB, 15 VIN (power), 16 VR (power)

## LM3524DN
designator U?
Regulating Pulse Width Modulator; PartNumber: LM3524DN; Manufacturer: National Semiconductor; CompType: MiscPower; PackageTopMarking: NSUZXYYTT*LM3524DN; Published: 4-Dec-2008; DatasheetVersion: May-2008; PackageVersion: revG, May-2006; PackageReference: N16E; Publisher: Altium Limited; PackageDescription: MDIP, .750 x .250 x .130in, 16 Lead, .100in Pitch; RoHS: O; PinCount: 16; DigiKeyPartNumber: LM3524DN-ND; Code_JEDEC: MS-001-BB; ComponentLink1Description: LM3524D Datasheet; ComponentLink1URL: http://www.national.com/ds/LM/LM3524D.pdf; ComponentLink2Description: LM3524D Web Page; ComponentLink2URL: http://www.national.com/pf/LM/LM3524D.html; ComponentLink3Description: N16E Package Page; ComponentLink3URL: http://www.national.com/packaging/folders/n16e.html
footprint N16E (DIP, 16-Leads, Row Spacing 7.62mm, Pitch 2.54mm, Body 19.3x6.35mm)
pins: 1 INV (in), 2 IN (in), 3 OSC (out), 4 +CL (in), 5 -CL (in), 6 RT, 7 CT, 8 GND (power), 9 COMP (in), 10 SD (in), 11 EA, 12 CA, 13 CB, 14 EB, 15 VIN (power), 16 VR (power)

## LM3525M-H
designator U?
Single Port USB Power Switch and Over-Current Protection; PartNumber: LM3525M-H; Manufacturer: National Semiconductor; CompType: MiscPower; PackageTopMarking: NSZXTT*3525*M-H; Published: 4-Dec-2008; DatasheetVersion: Mar-2005; PackageVersion: revL, Sep-2006; PackageReference: M08A; Publisher: Altium Limited; PackageDescription: SOIC Narrow, 4.9 x 3.9 x 1.45mm, 8 Lead, 1.27mm Pitch; RoHS: O; PinCount: 8; DigiKeyPartNumber: LM3525M-H-ND; Code_JEDEC: MS-012-AA; Code_IPC: SOIC127P600-8; ComponentLink1Description: LM3525 Datasheet; ComponentLink1URL: http://www.national.com/ds/LM/LM3525.pdf; ComponentLink2Description: LM3525 Web Page; ComponentLink2URL: http://www.national.com/pf/LM/LM3525.html; ComponentLink3Description: M08A Package Page; ComponentLink3URL: http://www.national.com/packaging/folders/m08a.html
footprint M08A_N (SOIC, 8-Leads, Body 4.9x3.9mm, Pitch 1.27mm, IPC Medium Density)
footprint M08A_L (SOIC, 8-Leads, Body 4.9x3.9mm, Pitch 1.27mm, IPC High Density)
footprint M08A_M (SOIC, 8-Leads, Body 4.9x3.9mm, Pitch 1.27mm, IPC Low Density)
pins: 1 EN (in), 2 FLG (oc), 3 GND (power), 4 NC, 5 NC, 6 OUT (power), 7 IN (power), 8 OUT (power)

## LM3525M-L
designator U?
Single Port USB Power Switch and Over-Current Protection; PartNumber: LM3525M-L; Manufacturer: National Semiconductor; CompType: MiscPower; PackageTopMarking: NSZXTT*3525*M-L; Published: 4-Dec-2008; DatasheetVersion: Mar-2005; PackageVersion: revL, Sep-2006; PackageReference: M08A; Publisher: Altium Limited; PackageDescription: SOIC Narrow, 4.9 x 3.9 x 1.45mm, 8 Lead, 1.27mm Pitch; RoHS: O; PinCount: 8; DigiKeyPartNumber: LM3525M-L-ND; Code_JEDEC: MS-012-AA; Code_IPC: SOIC127P600-8; ComponentLink1Description: LM3525 Datasheet; ComponentLink1URL: http://www.national.com/ds/LM/LM3525.pdf; ComponentLink2Description: LM3525 Web Page; ComponentLink2URL: http://www.national.com/pf/LM/LM3525.html; ComponentLink3Description: M08A Package Page; ComponentLink3URL: http://www.national.com/packaging/folders/m08a.html
footprint M08A_N (SOIC, 8-Leads, Body 4.9x3.9mm, Pitch 1.27mm, IPC Medium Density)
footprint M08A_L (SOIC, 8-Leads, Body 4.9x3.9mm, Pitch 1.27mm, IPC High Density)
footprint M08A_M (SOIC, 8-Leads, Body 4.9x3.9mm, Pitch 1.27mm, IPC Low Density)
pins: 1 ~{EN} (in), 2 FLG (oc), 3 GND (power), 4 NC, 5 NC, 6 OUT (power), 7 IN (power), 8 OUT (power)

## LM3526M-H
designator U?
Dual Port USB Power Switch and Over-Current Protection; PartNumber: LM3526M-H; Manufacturer: National Semiconductor; CompType: MiscPower; PackageTopMarking: NSZXTT*3526*M-H; Published: 4-Dec-2008; DatasheetVersion: Mar-2005; PackageVersion: revL, Sep-2006; PackageReference: M08A; Publisher: Altium Limited; PackageDescription: SOIC Narrow, 4.9 x 3.9 x 1.45mm, 8 Lead, 1.27mm Pitch; RoHS: O; PinCount: 8; DigiKeyPartNumber: LM3526M-H-ND; Code_JEDEC: MS-012-AA; Code_IPC: SOIC127P600-8; ComponentLink1Description: LM3526 Datasheet; ComponentLink1URL: http://www.national.com/ds/LM/LM3526.pdf; ComponentLink2Description: LM3526 Web Page; ComponentLink2URL: http://www.national.com/pf/LM/LM3526.html; ComponentLink3Description: M08A Package Page; ComponentLink3URL: http://www.national.com/packaging/folders/m08a.html
footprint M08A_N (SOIC, 8-Leads, Body 4.9x3.9mm, Pitch 1.27mm, IPC Medium Density)
footprint M08A_L (SOIC, 8-Leads, Body 4.9x3.9mm, Pitch 1.27mm, IPC High Density)
footprint M08A_M (SOIC, 8-Leads, Body 4.9x3.9mm, Pitch 1.27mm, IPC Low Density)
pins: 1 ENA (in), 2 FLG A (oc), 3 FLG B (oc), 4 ENB (in), 5 OUT B (power), 6 GND (power), 7 IN (power), 8 OUT A (power)

## LM3526M-L
designator U?
Dual Port USB Power Switch and Over-Current Protection; PartNumber: LM3526M-L; Manufacturer: National Semiconductor; CompType: MiscPower; PackageTopMarking: NSZXTT*3526*M-L; Published: 4-Dec-2008; DatasheetVersion: Mar-2005; PackageVersion: revL, Sep-2006; PackageReference: M08A; Publisher: Altium Limited; PackageDescription: SOIC Narrow, 4.9 x 3.9 x 1.45mm, 8 Lead, 1.27mm Pitch; RoHS: O; PinCount: 8; DigiKeyPartNumber: LM3526M-L-ND; Code_JEDEC: MS-012-AA; Code_IPC: SOIC127P600-8; ComponentLink1Description: LM3526 Datasheet; ComponentLink1URL: http://www.national.com/ds/LM/LM3526.pdf; ComponentLink2Description: LM3526 Web Page; ComponentLink2URL: http://www.national.com/pf/LM/LM3526.html; ComponentLink3Description: M08A Package Page; ComponentLink3URL: http://www.national.com/packaging/folders/m08a.html
footprint M08A_N (SOIC, 8-Leads, Body 4.9x3.9mm, Pitch 1.27mm, IPC Medium Density)
footprint M08A_L (SOIC, 8-Leads, Body 4.9x3.9mm, Pitch 1.27mm, IPC High Density)
footprint M08A_M (SOIC, 8-Leads, Body 4.9x3.9mm, Pitch 1.27mm, IPC Low Density)
pins: 1 ~{ENA} (in), 2 FLG A (oc), 3 FLG B (oc), 4 ~{ENB} (in), 5 OUT B (power), 6 GND (power), 7 IN (power), 8 OUT A (power)

## LM3528TME
designator U?
High Efficiency, Multi Display LED Driver with 128 Exponential Dimming Steps and Integrated OLED Power Supply in a 1.2mm × 1.6mm µSMD Package; PartNumber: LM3528TME; Manufacturer: National Semiconductor; CompType: MiscPower; PackageTopMarking: XV*I SE; Published: 4-Dec-2008; DatasheetVersion: Aug-2008; PackageVersion: revA, 2008; PackageReference: TMD12AAA; Publisher: Altium Limited; PackageDescription: Thin Micro SMD, 12 Bump, 0.4mm Pitch; RoHS: Y; PinCount: 12; ComponentLink1Description: LM3528 Datasheet; ComponentLink1URL: http://www.national.com/ds/LM/LM3528.pdf; ComponentLink2Description: LM3528 Web Page; ComponentLink2URL: http://www.national.com/pf/LM/LM3528.html; ComponentLink3Description: TMD12AAA Package Page; ComponentLink3URL: http://www.national.com/packaging/folders/tmd12aaa.html
footprint TMD12AAA (Micro SMD, 12-Leads, Body 1.62x1.22mm, Pitch 0.4mm, NSC Recommended)
pins: A1 OVP (in), A2 MAIN (in), A3 SUB/FB (in), B1 GPIO1 (io), B2 SCL (in), B3 SET (in), C1 HWEN/PGEN/GPIO (io), C2 SDA (io), C3 IN (power), D1 VIO (in), D2 SW (power), D3 GND (power)